# Altium schematic symbol library FT2232C.Schlib: 1 symbol
Pins are listed as number, name and electrical type; pins without a type are passive.

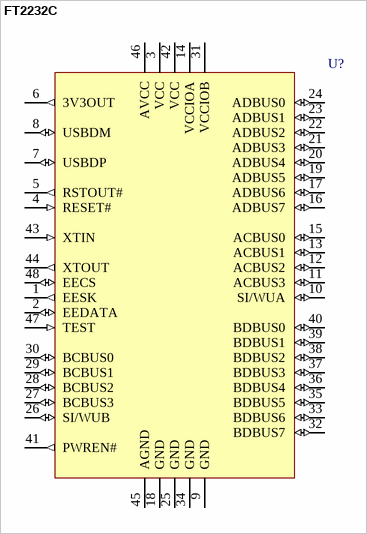
[diagram p0: symbol FT2232C]

## FT2232C
designator U?
Dual USB UART/FIFO Chip, LQFP-48
pins: 1 EESK (out), 2 EEDATA (io), 3 VCC (power), 4 RESET# (in), 5 RSTOUT# (out), 6 3V3OUT (out), 7 USBDP (io), 8 USBDM (io), 9 GND (power), 10 SI/WUA (io), 11 ACBUS3 (io), 12 ACBUS2 (io), 13 ACBUS1 (io), 14 VCCIOA (power), 15 ACBUS0 (io), 16 ADBUS7 (io), 17 ADBUS6 (io), 18 GND (power), 19 ADBUS5 (io), 20 ADBUS4 (io), 21 ADBUS3 (io), 22 ADBUS2 (io), 23 ADBUS1 (io), 24 ADBUS0 (io), 25 GND (power), 26 SI/WUB (io), 27 BCBUS3 (io), 28 BCBUS2 (io), 29 BCBUS1 (io), 30 BCBUS0 (io), 31 VCCIOB (power), 32 BDBUS7 (io), 33 BDBUS6 (io), 34 GND (power), 35 BDBUS5 (io), 36 BDBUS4 (io), 37 BDBUS3 (io), 38 BDBUS2 (io), 39 BDBUS1 (io), 40 BDBUS0 (io), 41 PWREN# (out), 42 VCC (power), 43 XTIN (in), 44 XTOUT (out), 45 AGND (power), 46 AVCC (power), 47 TEST (in), 48 EECS (io)